# Altium footprint library Diode.PcbLib: 30 footprints (part 1 of 2)
Each footprint in its own frame and in the unit in brackets; x right, y up, seen from the top. Pads: shape width x height; smd on the part's side, far side on the other; paste and mask are expansions set on the pad; w line width, h text height; cw(c..) or ccw(c..) is an arc to the next point about the centre after c.
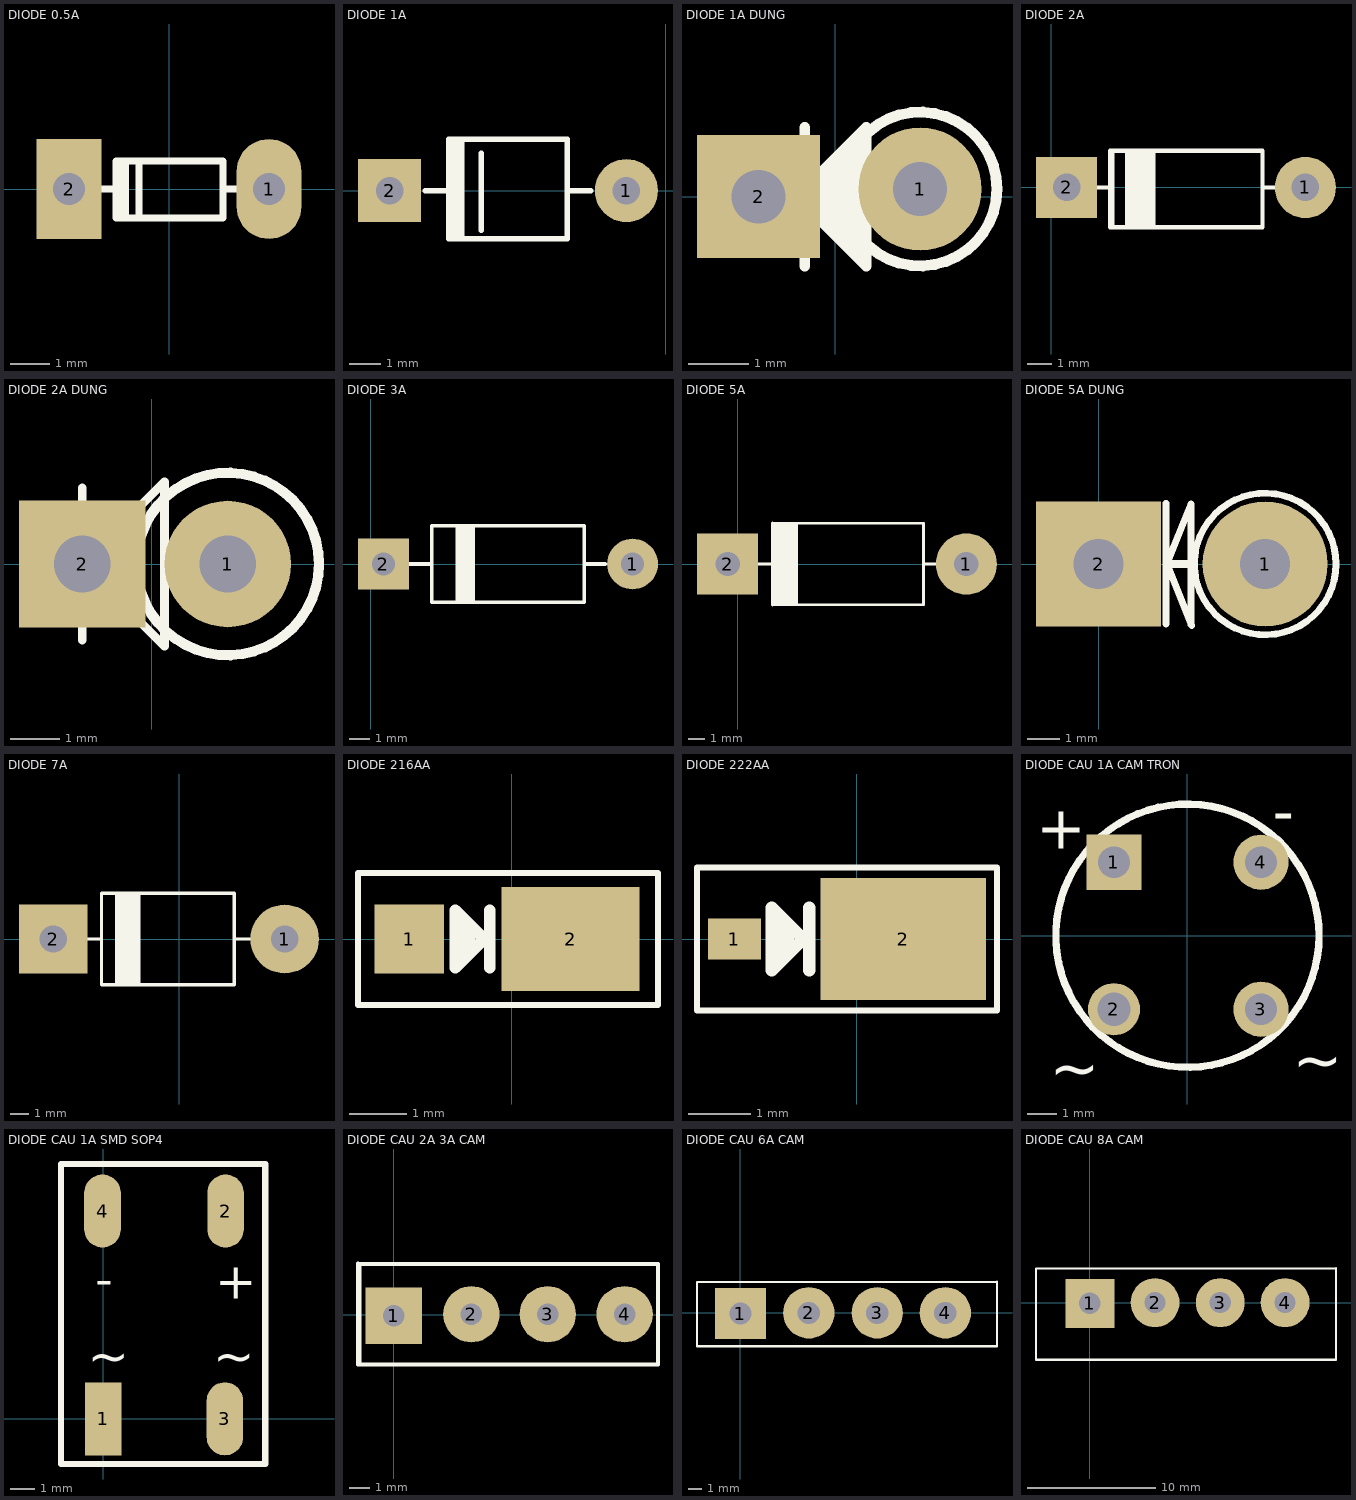
[diagram p0: the footprints below, top view; thin cyan lines are the x and y axes]

## DIODE 0.5A [mil] "Diode muoi, xung"
height 80
pads (2):
  oval 65x100 hole 32: 1(100,0)
  rect 65x100 hole 32: 2(-100,0)
Top Overlay:
  rectangle: -55,-30 -40,25
  lines w7: -80,0 -53,0 ; -30,-29 -30,28 ; 54,0 80,0 ; -53,-29 54,-29 54,28 -53,28 -53,-29
3D body "SW3dPS-1N4148.STEP": height 61.22, standoff -50, extent -108.5,-32.96 108.5,32

## DIODE 1A [mil] "Diode 1A"
height 100
pads (2):
  round 80 hole 35: 1(-50,0)
  rect 80x80 hole 35: 2(-350,0)
Top Overlay:
  rectangle: -275,-60.98 -255,65
  lines w7: -305,0 -275,0 ; -275,-16 -275,0 ; -275,21 -275,0 ; -234,-50 -234,47 ; -125,0 -95,0 ; -275,0 -275,65 -125,65 -125,-60.98 -275,-60.98 -275,0
3D body "User Library-DO-15-1.step": height 122.05, standoff -137.8, extent -365.75,-60.98 -34.25,65

## DIODE 1A DUNG [mil] "Diode 1A DUNG"
height 100
pads (2):
  round 80 hole 35: 1(55,5)
  rect 80x80 hole 35: 2(-50,0)
Top Overlay:
  circle w7: c55,5 r50
  region: 20,40 20,-40 15,-40 -20,-5 -20,5
  lines w7: -30,0 -20,0 ; -20,-45 -20,45 ; -20,-5 20,-45 20,45 -20,5 -20,-5
3D body "SW3dPS-1N4007_Stand.STEP": height 252.32, standoff -78.14, extent -64,-50 104,55

## DIODE 2A [mil] "Diode 2A"
height 100
pads (2):
  round 100 hole 45: 1(415,0)
  rect 100x100 hole 45: 2(25,0)
Top Overlay:
  rectangle: 120,-65 170,60
  lines w7: 61,0 96,0 ; 96,-31 96,0 ; 96,32 96,0 ; 100,-65 100,60 ; 345,0 391,0 ; 96,-65 345,-65 345,60 96,60 96,-65
3D body "User Library-DO-15-1 (1).step": height 112.99, standoff -146.85, extent 4.25,-65 435.75,60.98

## DIODE 2A DUNG [mil] "Diode 2A DUNG"
height 100
pads (2):
  round 100 hole 45: 1(60,0)
  rect 100x100 hole 45: 2(-55,0)
Top Overlay:
  circle w8: c60,0 r72.11
  lines w7: -55,-60 -55,60 ; 10,50 10,65 -55,0 10,-65 10,55
3D body "SW3dPS-Zener 1W_Stand.STEP": height 252.32, standoff -78.14, extent -68.99,-49.99 99.01,55

## DIODE 3A [mil] "Diode 3A"
height 100
pads (2):
  round 100 hole 45: 1(515,0)
  rect 100x100 hole 45: 2(25,0)
Top Overlay:
  rectangle: 170,-75 205,75
  lines w7: 76,0 120,0 ; 170,-75 170,75 ; 425,0 461,0 ; 120,-75 420,-75 420,75 120,75 120,-75
3D body "User Library-DO15A_12_6.step": height 141.73, standoff -7.87, extent 4.25,-71.73 535.75,70

## DIODE 5A [mil] "Diode 5A, W 200mil, L 550mil"
height 150
pads (2):
  round 150 hole 60: 1(560,0)
  rect 150x150 hole 60: 2(-25,0)
Top Overlay:
  rectangle: 85,-100 148,100
  lines w7: 50,0 118,0 ; 85,-100 455,-100 455,100 85,100 ; 455,0 490,0
  lines w7.87: 85,-100 85,100
3D body "SW3dPS-BYW98.STEP": height 210.63, standoff -129.92, extent -51.87,-106 589.87,102.66

## DIODE 5A DUNG [mil] "Diode 5A DUNG"
height 150
pads (2):
  round 150 hole 60: 1(200,0)
  rect 150x150 hole 60: 2(0,0)
Top Overlay:
  circle w8: c200,0 r85
  lines w8: 81,-72 81,73 ; 82,0 111,72 111,-73 ; 83,-2 112,-74
  lines w10: 82,0 113,0
3D body "User Library-1N540X.STEP": height 450.79, standoff -157.48, extent -32.07,-111.18 222.07,90

## DIODE 7A [mil] "Diode 7A"
height 150
pads (2):
  round 150 hole 60: 1(230,0)
  rect 150x150 hole 60: 2(-275,0)
Top Overlay:
  rectangle: -140,-100 -85,100
  lines w7: -250,0 -212,0 ; -212,-44 -212,0 ; -212,46 -212,0 ; -205,0 -170,0 ; 120,0 155,0 ; -170,-100 120,-100 120,100 -170,100 -170,-100
3D body "User Library-P600.step": height 318.9, standoff -157.48, extent -296.26,-161.42 250.98,161.42

## DIODE 216AA [mm] "DO-216AA"
pads (2):
  rect 1.2x1.2 smd: 1(-1.778,0)
  rect 2.4x1.8 smd: 2(1.022,0)
Top Overlay:
  lines w0.102: -2.667,-1.143 2.54,-1.143 2.54,1.143 -2.667,1.143 -2.667,-1.143
  lines w0.2: -0.878,-0.3 -0.878,0.3 ; -0.728,-0.15 -0.728,0.15 ; -0.378,-0.5 -0.378,0.5 ; -0.978,-0.5 -0.978,0.5 -0.478,0 -0.978,-0.5
3D body "User Library-microsemi_powermite.step": height 1.02, standoff 0, extent -1.994,-0.955 1.766,0.955

## DIODE 222AA [mm] "DO-222AA"
pads (2):
  rect 0.85x0.65 smd: 1(-1.959,0)
  rect 2.65x1.95 smd: 2(0.741,0)
Top Overlay:
  lines w0.102: -2.559,-1.143 -2.559,1.143 2.241,1.143 2.241,-1.143 -2.559,-1.143
  lines w0.2: -1.259,-0.3 -1.259,0.3 ; -1.109,-0.15 -1.109,0.15 ; -0.759,-0.5 -0.759,0.5 ; -1.359,-0.5 -0.859,0 -1.359,0.5 -1.359,-0.5
3D body "User Library-DO216-AA.step": height 0.85, standoff 0, extent -2.154,-0.954 1.646,0.954

## DIODE CAU 1A CAM TRON [mm] "DIODE CAU 1A CAM TRON"
height 0.14
pads (4):
  rect 1.905x1.905 hole 1.1: 1(-2.54,2.54)
  round 1.8 hole 1.143: 2(-2.54,-2.54)
  round 1.905 hole 1.1: 3(2.54,-2.54) 4(2.54,2.54)
Top Overlay:
  circle w0.254: c0,0 r4.547
  text "~" at 3.632,-5.004 h1.5
  text "~" at -4.75,-5.283 h1.5
  text "-" at 2.946,3.556 h1.5
  text "+" at -5.232,2.997 h1.5

## DIODE CAU 1A SMD SOP4 [mm] "SOP4"
pads (4):
  rect 1.5x3 smd: 1(0,0)
  oval 1.5x3 smd: 2(5.029,8.534) 3(5,0) 4(-0.025,8.534)
Top Overlay:
  lines w0.254: -1.727,-1.854 -1.727,10.465 6.655,10.465 6.655,-1.854 -1.727,-1.854
  text "-" at -0.33,4.572 h2.54
  text "+" at 4.597,4.445 h2.54
  text "~" at 4.521,1.372 h2.54
  text "~" at -0.635,1.372 h2.54
3D body "User Library-SDIP-1.step": height 2.93, standoff 0, extent -1.744,-0.809 6.756,9.191

## DIODE CAU 2A 3A CAM [mil] "DIODE CAU 2A 3A CAM"
height 800
pads (4):
  rect 110x110 hole 42: 1(0,-2)
  round 110 hole 42: 2(151,1) 3(300,1) 4(450,1)
Top Overlay:
  lines w7: -67,-95 -67,99 ; -70,-97 515,-97 515,99 -69,99 -70,100 -70,-97
3D body "SW3dPS-KBPM.STEP": height 649.61, standoff -303.15, extent -61.99,-95 511.99,102.24

## DIODE CAU 6A CAM [mil] "DIODE CAU 6A CAM"
height 800
pads (4):
  rect 150x150 hole 65: 1(0,-2)
  round 150 hole 65: 2(200,0) 3(400,0) 4(599,0)
Top Overlay:
  lines w7: -127,-97 750,-97 750,90.44 -127,89.34 -127,-97
3D body "SW3dPS-bridge 2.STEP": height 937.01, standoff -505.29, extent -128.98,-90 748.97,58.03

## DIODE CAU 8A CAM [mil] "DIODE CAU 8A CAM"
height 800
pads (4):
  rect 150x150 hole 65: 1(0,-2)
  round 150 hole 65: 2(200,0) 3(400,0) 4(599,0)
Top Overlay:
  lines w7: -165,-175 755,-175 755,105.34 -165,104.19 -165,-175
3D body "User Library-Silicon Bridge Rectifiers KBU8A.step": height 931.1, standoff -734.25, extent -161.7,-173.62 751.69,100